# EAGLE library part REF5025_ (library Chromation)
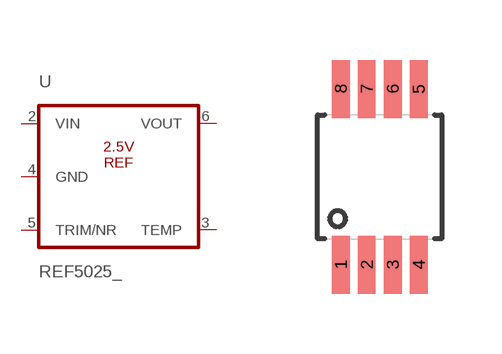
[diagram p1: symbol with the pads of DGK; footprint DGK]

Designator prefix U

## REF5025_VSSOP-8  [DGK]
1  DNC  nc
2  VIN
3  TEMP  out
4  GND
5  TRIM/NR
6  VOUT
7  NC  nc
8  DNC  nc

## Footprint DGK (pad centres in mm)
smd 0.45 x 1.45: 1 -0.975,-2.2; 2 -0.325,-2.2; 3 0.325,-2.2; 4 0.975,-2.2; 5 0.975,2.2; 6 0.325,2.2; 7 -0.325,2.2; 8 -0.975,2.2